# EAGLE library part THS7314 (library snes_div)
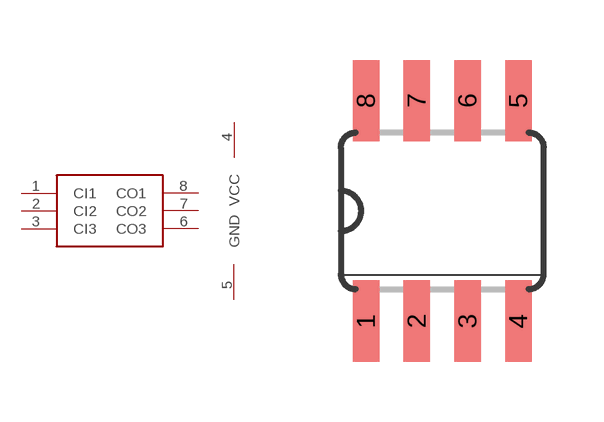
[diagram p7: symbol with the pads of THS7314; footprint THS7314]

Designator prefix -; gates G$1=THS7314 G$2=PWR

## THS7314  [THS7314]
1  G$1:CI1
2  G$1:CI2
3  G$1:CI3
4  G$2:VCC
5  G$2:GND
6  G$1:CO3
7  G$1:CO2
8  G$1:CO1

## Footprint THS7314 (pad centres in mm)
smd 0.66 x 2.032: 1 -1.905,-2.756; 2 -0.635,-2.756; 3 0.635,-2.756; 4 1.905,-2.756; 5 1.905,2.756; 6 0.635,2.756; 7 -0.635,2.756; 8 -1.905,2.756